# Altium schematic symbol library W 稳压管.SCHLIB: 3 symbols
Pins are listed as number, name and electrical type; pins without a type are passive.

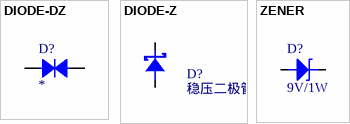
[diagram p0: symbols DIODE-DZ to ZENER]

## DIODE-DZ
designator D?
双向二极管
pins: 1, 2

## DIODE-Z
designator D?, comment 稳压二极管
二极管稳压管
pins: 1, 2

## ZENER
designator D?, comment 9V/1W
footprint 4007
pins: A, K